# Altium footprint library txc_xtal_7a.PcbLib: 1 footprints
Each footprint in its own frame and in the unit in brackets; x right, y up, seen from the top. Pads: shape width x height; smd on the part's side, far side on the other; paste and mask are expansions set on the pad; w line width, h text height; cw(c..) or ccw(c..) is an arc to the next point about the centre after c.
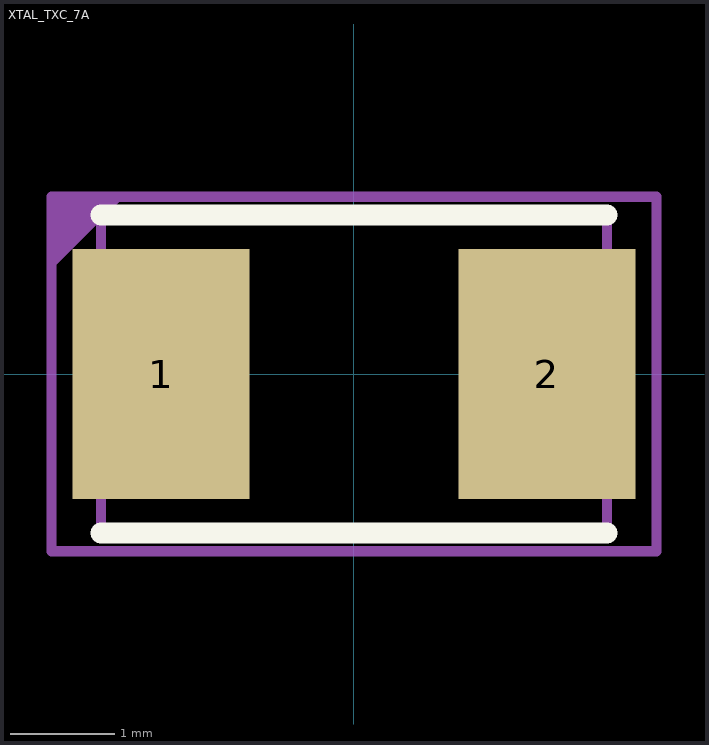
[diagram p0: the footprint, top view; thin cyan lines are the x and y axes]

## XTAL_TXC_7A [mm] "Chip Capacitor, 2-Leads, Body 5.0x3.2mm, IPC Medium Density"
height 1.35
pads (2):
  rect 1.7x2.4 smd: 1(-1.85,0) 2(1.85,0)
Top Overlay:
  lines w0.2: -2.425,-1.525 2.425,-1.525 ; -2.425,1.525 2.425,1.525
Top 3D Body:
  lines w0.1: -2.425,-1.525 -2.425,1.525 2.425,1.525 2.425,-1.525 -2.425,-1.525
Top Courtyard:
  region: -2.9,1.7 -2.2,1.7 -2.9,1
  lines w0.1: -2.9,-1.7 -2.9,1.7 2.9,1.7 2.9,-1.7 -2.9,-1.7
Top Designator (Mech17):
  text ".Designator" at -1.56,-0.227 h0.7
3D body "7A-24.000MAAJ-T.STEP": height 1.36, standoff 0.01, extent -2.5,-1.6 2.5,1.6